# EAGLE library part EDGECARD_20POS (library PINHD-2x10)
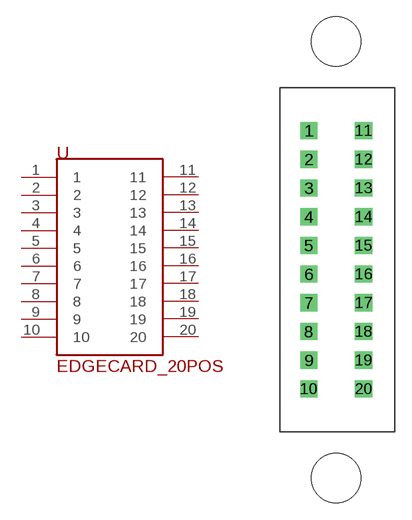
[diagram p0: symbol with the pads of EDGECARD_20POS; footprint EDGECARD_20POS]

Designator prefix -

## EDGECARD_20POS  [EDGECARD_20POS]
1  1
2  2
3  3
4  4
5  5
6  6
7  7
8  8
9  9
10  10
11  11
12  12
13  13
14  14
15  15
16  16
17  17
18  18
19  19
20  20

## Footprint EDGECARD_20POS (pad centres in mm)
drill 1.016 square: 1 0,0; 2 0,-2.54; 3 0,-5.08; 4 0,-7.62; 5 0,-10.16; 6 0,-12.7; 7 0,-15.24; 8 0,-17.78; 9 0,-20.32; 10 0,-22.86; 11 4.851,0; 12 4.851,-2.54; 13 4.851,-5.08; 14 4.851,-7.62; 15 4.851,-10.16; 16 4.851,-12.7; 17 4.851,-15.24; 18 4.851,-17.78; 19 4.851,-20.32; 20 4.851,-22.86
hole 4.369 at 2.426,7.874
hole 4.369 at 2.426,-30.734